# EAGLE library part TEENSY40 (library teensy)
Teensy 4.0 device including POGO pins for pins 24 - 33, but not yet pins for D+ and D-. Symbol layout is what works for me and may not suite everyone... that can be added or additional symbols can be created to be used in a modilied davie name.
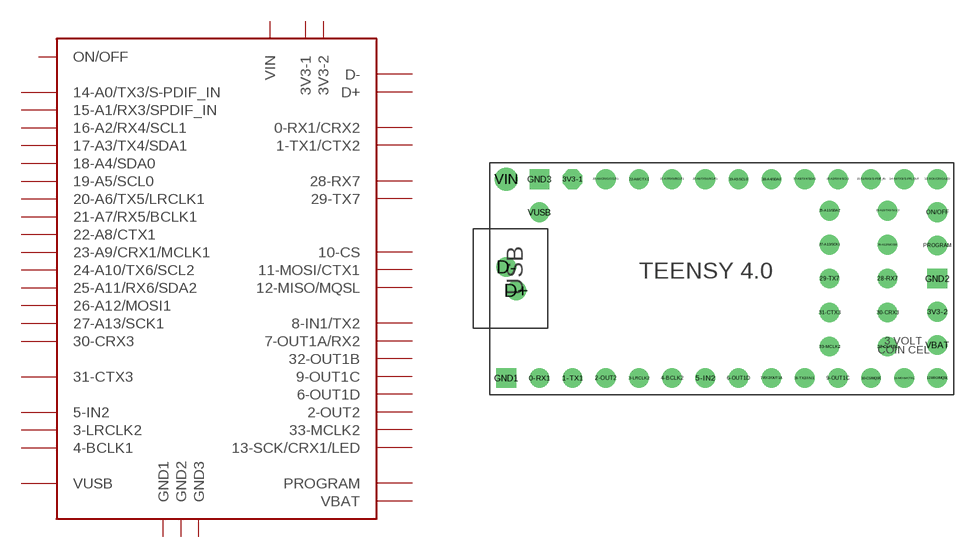
[diagram p0: symbol with the pads of TEENSY40; footprint TEENSY40]

Designator prefix -

## TEENSY40  [TEENSY40]
0-RX1  0-RX1/CRX2
1-TX1  1-TX1/CTX2
2-OUT2  2-OUT2
3-LRCLK2  3-LRCLK2
3V3-1  3V3-1
3V3-2  3V3-2
4-BCLK2  4-BCLK1
5-IN2  5-IN2
6-OUT1D  6-OUT1D
7-RX2/OUT1A  7-OUT1A/RX2
8-TX2/IN1  8-IN1/TX2
9-OUT1C  9-OUT1C
10-CS/MQSR  10-CS
11-MOSI/CTX1  11-MOSI/CTX1
12-MIO/MQSL  12-MISO/MQSL
13-SCK/CRX1/LED  13-SCK/CRX1/LED
14-A0/TX3/S-PFI_OUT  14-A0/TX3/S-PDIF_IN
15-A1/RX3/S-PDIF_IN  15-A1/RX3/SPDIF_IN
16-A2/RX4/SCL1  16-A2/RX4/SCL1
17-A3/TX4/SDA1  17-A3/TX4/SDA1
18-A4/SDA0  18-A4/SDA0
19-A5/SCL0  19-A5/SCL0
20-A6/TX5/LRCLK1  20-A6/TX5/LRCLK1
21-A7/RX5/BCLK1  21-A7/RX5/BCLK1
22-A8/CTX1  22-A8/CTX1
23-A9/CRX1/CCLK1  23-A9/CRX1/MCLK1
24-A10/TX6/SCL2  24-A10/TX6/SCL2
25-A11/SDA2  25-A11/RX6/SDA2
26-A12/MOSI1  26-A12/MOSI1
27-A13/SCK1  27-A13/SCK1
28-RX7  28-RX7
29-TX7  29-TX7
30-CRX3  30-CRX3
31-CTX3  31-CTX3
32-OUTB1  32-OUT1B
33-MCLK2  33-MCLK2
D+  D+
D-  D-
GND1  GND1
GND2  GND2
GND3  GND3
ON/OFF  ON/OFF
PROGRAM  PROGRAM
VBAT  VBAT
VIN  VIN
VUSB  VUSB

## Footprint TEENSY40 (pad centres in mm)
drill 1: 0-RX1 -13.97,-7.62; 1-TX1 -11.43,-7.62; 2-OUT2 -8.89,-7.62; 3-LRCLK2 -6.35,-7.62; 3V3-2 16.51,-2.54; 4-BCLK2 -3.81,-7.62; 5-IN2 -1.27,-7.62; 6-OUT1D 1.27,-7.62; 7-RX2/OUT1A 3.81,-7.62; 8-TX2/IN1 6.35,-7.62; 9-OUT1C 8.89,-7.62; 10-CS/MQSR 11.43,-7.62; 11-MOSI/CTX1 13.97,-7.62; 12-MIO/MQSL 16.51,-7.62; 13-SCK/CRX1/LED 16.51,7.62; 14-A0/TX3/S-PFI_OUT 13.97,7.62; 15-A1/RX3/S-PDIF_IN 11.43,7.62; 16-A2/RX4/SCL1 8.89,7.62; 17-A3/TX4/SDA1 6.35,7.62; 18-A4/SDA0 3.81,7.62; 19-A5/SCL0 1.27,7.62; 20-A6/TX5/LRCLK1 -1.27,7.62; 21-A7/RX5/BCLK1 -3.81,7.62; 22-A8/CTX1 -6.35,7.62; 23-A9/CRX1/CCLK1 -8.89,7.62; 24-A10/TX6/SCL2 12.7,5.207; 25-A11/SDA2 8.255,5.207; 26-A12/MOSI1 12.7,2.603; 27-A13/SCK1 8.255,2.603; 28-RX7 12.7,0; 29-TX7 8.255,0; 30-CRX3 12.7,-2.603; 31-CTX3 8.255,-2.603; 32-OUTB1 12.7,-5.207; 33-MCLK2 8.255,-5.207; D+ -15.75,-0.9; D- -16.51,0.9; ON/OFF 16.51,5.08; PROGRAM 16.51,2.54; VBAT 16.51,-5.08; VUSB -13.97,5.08
drill 1 octagon: 3V3-1 -11.43,7.62
drill 1 square: GND1 -16.51,-7.62; GND2 16.51,0; GND3 -13.97,7.62
drill 1 pad 1.778: VIN -16.51,7.62